# EAGLE library part GROVE-CONNECTOR-4PIN (library ItsyBitsy_Expander_v2.0_RP2040)
320110030
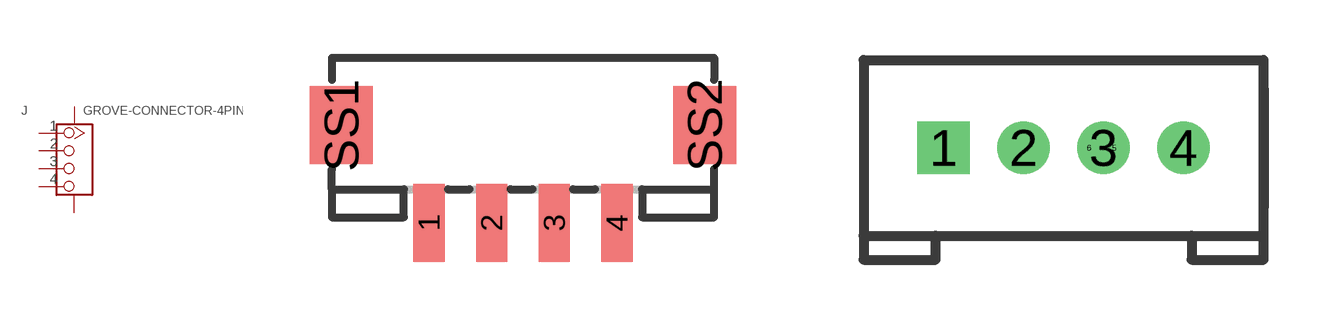
[diagram p3: symbol with the pads of HW4-SMD-2.0; footprints HW4-SMD-2.0, HW4-PTH-2.0]

Designator prefix J

## GROVE-CONNECTOR-4PIN (VALUE: H4P-SMD-2.0)  [HW4-SMD-2.0]
1  1
2  2
3  3
4  4
SS1  SS1
SS2  SS2

## GROVE-CONNECTOR-4PINHW4-PTH-2.0  [HW4-PTH-2.0]
1  1
2  2
3  3
4  4
5  SS1
6  SS2

## Footprint HW4-SMD-2.0 (pad centres in mm)
smd 1 x 2.5: 1 -3,0; 2 -1,0; 3 1,0; 4 3,0
smd 2 x 2.5: SS1 -5.8,3.123; SS2 5.8,3.123

## Footprint HW4-PTH-2.0 (pad centres in mm)
drill 0.8 pad 1.27 square: 1 -3,3.5
drill 0.8 pad 1.27: 2 -1,3.5; 3 1,3.5; 4 3,3.5
smd 0 x 0: 5 1.27,3.5; 6 0.635,3.5